# Altium schematic symbol library Triangli.SCHLIB: 45 symbols
Pins are listed as number, name and electrical type; pins without a type are passive.

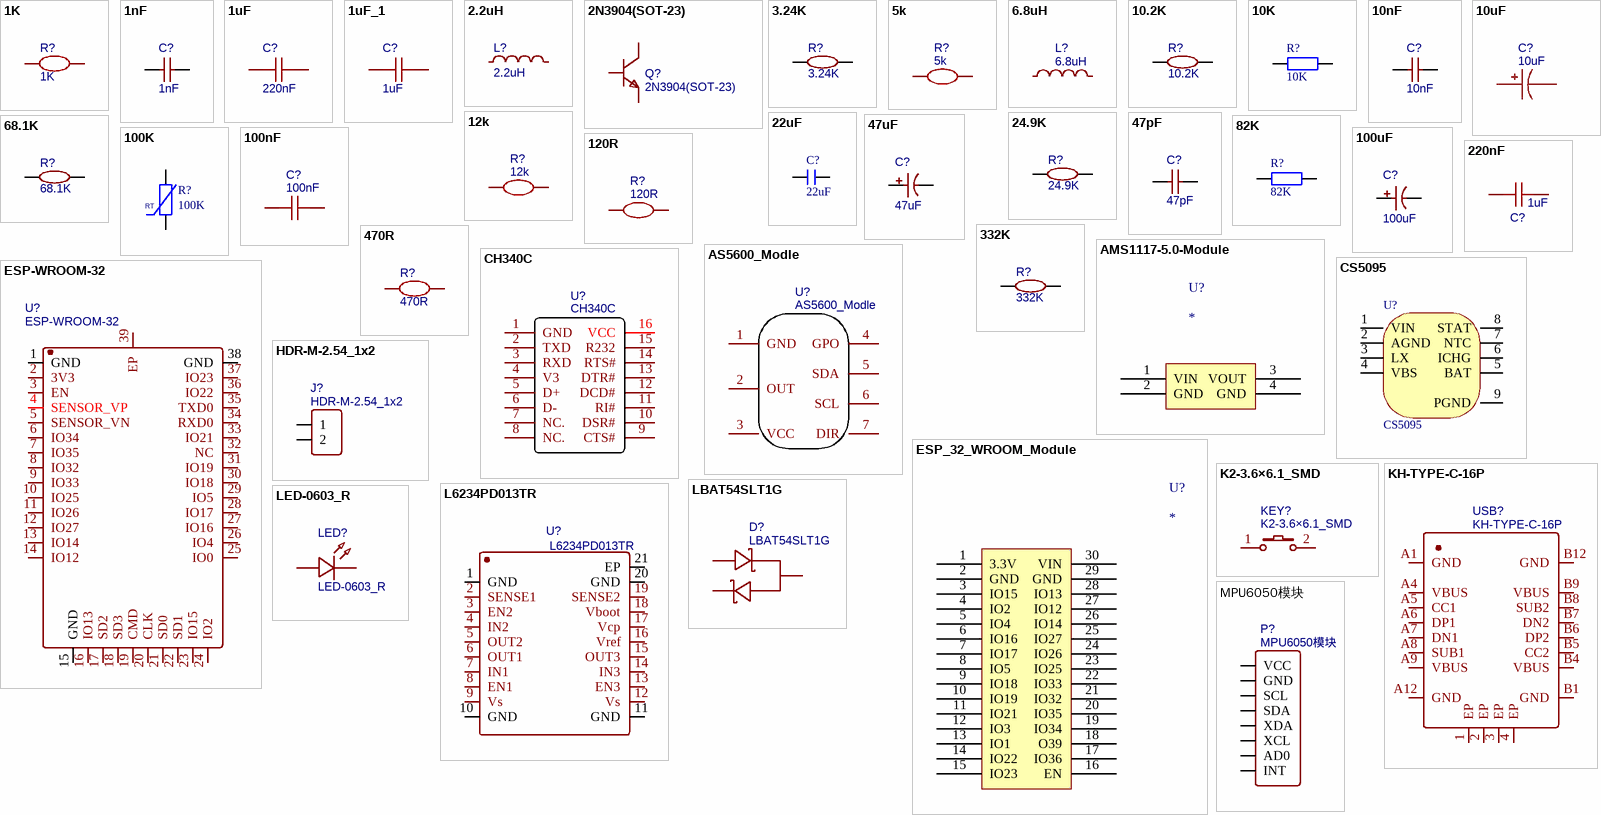
[diagram p0: symbols 1K to MPU6050模块]

## 1K
designator R?
nameAlias: Value(Ω); Contributor: LCEDA_Lib; spicePre: R; spiceSymbolName: R_0603_EU
footprint R0603
pins: 1, 2

## 1nF
designator C?
BOM_Manufacturer: YAGEO; BOM_Manufacturer Part: CC0603KRX7R9BB102; nameAlias: Capacitance; BOM_Supplier: LCSC; BOM_Supplier Part: C100040; spicePre: C; spiceSymbolName: CC0603KRX7R9BB102; BOM_JLCPCB Part Class: Extended Part
footprint C0603
pins: 1, 2

## 1uF
designator C?, comment 220nF
nameAlias: Value(F); Contributor: LCEDA_Lib; spicePre: C; spiceSymbolName: C_0603_US
footprint C0603
pins: 1, 2

## 1uF_1
designator C?, comment 1uF
nameAlias: Value(F); Contributor: LCEDA_Lib; spicePre: C; spiceSymbolName: C_0603_US
footprint C0603
pins: 1, 2

## 2.2uH
designator L?
BOM_Manufacturer: SXN; BOM_Manufacturer Part: SMNR4020-2.2UH; nameAlias: Inductance; BOM_Supplier: LCSC; BOM_Supplier Part: C135262; BOM_JLCPCB Part Class: Extended Part; spicePre: L; spiceSymbolName: SMNR4020-2.2UH
footprint IND-SMD_L4.0-W4.0_SMNR4020
pins: 1, 2

## 2N3904(SOT-23)
designator Q?
BOM_Manufacturer: KEC; BOM_Manufacturer Part: 2n3904S-RTK/PS; Contributor: LCEDA_Lib; BOM_Supplier: LCSC; BOM_Supplier Part: C18536; SMT Type: SOT-23; spicePre: Q; spiceSymbolName: 2N3904(SOT-23)
footprint SOT-23-3_L2.9-W1.3-P1.90-LS2.4-TR
pins: 1 E, 2 B, 3 C

## 3.24K
designator R?
BOM_Manufacturer: UniOhm; BOM_Manufacturer Part: 0603WAF3241T5E; nameAlias: Resistance (Ohms); SMT Type: Extend; BOM_Supplier: LCSC; BOM_Supplier Part: C22994; BOM_LCSC Assembly: Yes; spicePre: R; spiceSymbolName: 0603WAF3241T5E; BOM_JLCPCB Part Class: Extended Part
footprint R0603
pins: 1, 2

## 5k
designator R?
nameAlias: Value(Ω); Contributor: LCEDA_Lib; spicePre: R; spiceSymbolName: R_0603_EU
footprint R0603
pins: 1, 2

## 6.8uH
designator L?
BOM_Manufacturer: TAITEC; BOM_Manufacturer Part: TMPC0624H-6R8MG-D; nameAlias: Inductance; Contributor: LCSC; BOM_Supplier: LCSC; BOM_Supplier Part: C357230; spicePre: L; spiceSymbolName: TMPC0624H-6R8MG-D
footprint IND-SMD_L7.3-W6.6
pins: 1, 2

## 10.2K
designator R?
BOM_Manufacturer: UniOhm; BOM_Manufacturer Part: 0603WAF1022T5E; nameAlias: Resistance (Ohms); SMT Type: Extend; BOM_Supplier: LCSC; BOM_Supplier Part: C22772; BOM_LCSC Assembly: Yes; spicePre: R; spiceSymbolName: 0603WAF1022T5E; BOM_JLCPCB Part Class: Extended Part
footprint R0603
pins: 1, 2

## 10K
designator R?
BOM名称: 贴片电阻; 版权归属: 来自淘宝 ID：黄晶宝石; 联系售后: https://shop463601444.taobao.com
footprint R 0805_L
pins: 1, 2

## 10nF
designator C?
BOM_Manufacturer: YAGEO; BOM_Manufacturer Part: CC0603KRX7R9BB103; nameAlias: Capacitance; BOM_Supplier: LCSC; BOM_Supplier Part: C100042; spicePre: C; spiceSymbolName: CC0603KRX7R9BB103; BOM_JLCPCB Part Class: Extended Part
footprint C0603
pins: 1, 2

## 10uF
designator C?
nameAlias: Value(F); Contributor: LCEDA_Lib; BOM_Supplier Part: C99352; BOM_Supplier: LCSC; spicePre: C; spiceSymbolName: C_Tan_SMD_A_US
footprint CASE-A_3216
pins: 1, 2

## 12k
designator R?
nameAlias: Value(Ω); Contributor: LCEDA_Lib; spicePre: R; spiceSymbolName: R_0603_EU
footprint R0603
pins: 1, 2

## 22uF
designator C?
BOM名称: 无极性贴片电容; 淘宝ID: 封装库来自淘宝 ID：黄晶宝石; 联系售后: https://shop463601444.taobao.com
footprint C 1206_L
pins: 1, 2

## 24.9K
designator R?
BOM_Manufacturer: UniOhm; BOM_Manufacturer Part: 0603WAF2492T5E; nameAlias: Resistance (Ohms); SMT Type: Extend; BOM_Supplier: LCSC; BOM_Supplier Part: C25962; BOM_LCSC Assembly: Yes; spicePre: R; spiceSymbolName: 0603WAF2492T5E; BOM_JLCPCB Part Class: Extended Part
footprint R0603
pins: 1, 2

## 47pF
designator C?
BOM_Manufacturer: YAGEO; BOM_Manufacturer Part: CC0603JRNPO9BN470; nameAlias: Capacitance; BOM_Supplier: LCSC; BOM_Supplier Part: C105622; spicePre: C; spiceSymbolName: CC0603JRNPO9BN470; BOM_JLCPCB Part Class: Extended Part
footprint C0603
pins: 1, 2

## 47uF
designator C?
BOM_Manufacturer: ValuePro; BOM_Manufacturer Part: 47uF 50V 6.3*11Black high frequency; nameAlias: Capacitance; BOM_Supplier: LCSC; BOM_Supplier Part: C45670; spicePre: C; spiceSymbolName: 47uF 50V 6.3*11Black high frequency; BOM_JLCPCB Part Class: Extended Part
footprint CAP-TH_BD6.3-P2.50-D1.0-FD
pins: 1, 2

## 68.1K
designator R?
BOM_Manufacturer: UniOhm; BOM_Manufacturer Part: 0603WAF6812T5E; nameAlias: Resistance (Ohms); SMT Type: Extend; BOM_Supplier: LCSC; BOM_Supplier Part: C25976; BOM_LCSC Assembly: Yes; spicePre: R; spiceSymbolName: 0603WAF6812T5E; BOM_JLCPCB Part Class: Extended Part
footprint R0603
pins: 1, 2

## 82K
designator R?
BOM名称: 贴片电阻; 版权归属: 来自淘宝 ID：黄晶宝石; 联系售后: https://shop463601444.taobao.com
footprint R 0805_L
pins: 1, 2

## 100K
designator R?
BOM名称: 压敏电阻; 版权归属: 封装库来自淘宝 ID：黄晶宝石; 联系售后: https://shop463601444.taobao.com
footprint R 0805-HP_L
pins: 1, 2
text: RT

## 100nF
designator C?
nameAlias: Value(F); Contributor: LCEDA_Lib; Package Display: No; BOM_Supplier Part: C14663; BOM_Supplier: LCSC; spicePre: C; spiceSymbolName: C_0603_US
footprint C0603
pins: 1, 2

## 100uF
designator C?
BOM_Manufacturer: ValuePro; BOM_Manufacturer Part: 100uF 25V 6.3*7; nameAlias: Capacitance; BOM_Supplier: LCSC; BOM_Supplier Part: C44587; BOM_JLCPCB Part Class: Extended Part; spicePre: C; spiceSymbolName: 100uF 25V 6.3*7
footprint CAP-TH_BD6.3-P2.50-D1.0-FD
pins: 1, 2

## 120R
designator R?
nameAlias: Value(Ω); Contributor: LCEDA_Lib; BOM_Supplier Part: C103256; BOM_Supplier: LCSC; spicePre: R; spiceSymbolName: R_0603_EU
footprint R0603
pins: 1, 2

## 220nF
designator C?, comment 1uF
nameAlias: Value(F); Contributor: LCEDA_Lib; spicePre: C; spiceSymbolName: C_0603_US
footprint C0603
pins: 1, 2

## 332K
designator R?
BOM_Manufacturer: UniOhm; BOM_Manufacturer Part: 0603WAF3323T5E; nameAlias: Resistance (Ohms); SMT Type: Extend; BOM_Supplier: LCSC; BOM_Supplier Part: C23139; BOM_LCSC Assembly: Yes; spicePre: R; spiceSymbolName: 0603WAF3323T5E; BOM_JLCPCB Part Class: Extended Part
footprint R0603
pins: 1, 2

## 470R
designator R?
nameAlias: Value(Ω); Contributor: LCEDA_Lib; spicePre: R; spiceSymbolName: R_0603_EU
footprint R0603
pins: 1, 2

## AMS1117-5.0-Module
designator U?
pins: 1 VIN, 2 GND, 3 VOUT, 4 GND

## AS5600_Modle
designator U?
Contributor: 45coll; spicePre: U; spiceSymbolName: AS5600_Modle; 淘宝ID: https://item.taobao.com/item.htm?spm=a1z09.2.0.0.2d022e8duL4IzW&id=622544987536&_u=31sddf3scb0c
footprint AS5600_MODLE
pins: 1 GND, 2 OUT, 3 VCC, 4 GPO, 5 SDA, 6 SCL, 7 DIR

## CH340C
designator U?
BOM_Manufacturer: WCH; BOM_Supplier: LCSC; BOM_Manufacturer Part: CH340C; BOM_Supplier Part: C84681; BOM_JLCPCB Part Class: Extended Part; spicePre: U; spiceSymbolName: CH340C
footprint SOP-16_L10.0-W3.9-P1.27-LS6.0-BL
pins: 1 GND, 2 TXD, 3 RXD, 4 V3, 5 D+, 6 D-, 7 NC., 8 NC., 9 CTS#, 10 DSR#, 11 RI#, 12 DCD#, 13 DTR#, 14 RTS#, 15 R232, 16 VCC

## CS5095
designator U?
footprint ESOP8_N
pins: 1 VIN, 2 AGND, 3 LX, 4 VBS, 5 BAT, 6 ICHG, 7 NTC, 8 STAT, 9 PGND

## ESP-WROOM-32
designator U?
BOM_Manufacturer: ESPRESSIF; BOM_Supplier: LCSC; BOM_Manufacturer Part: ESP-WROOM-32; BOM_Supplier Part: C95209; spicePre: U; spiceSymbolName: ESP-WROOM-32
footprint WIFIM-SMD_ESP-WROOM-32
pins: 1 GND, 2 3V3, 3 EN, 4 SENSOR_VP, 5 SENSOR_VN, 6 IO34, 7 IO35, 8 IO32, 9 IO33, 10 IO25, 11 IO26, 12 IO27, 13 IO14, 14 IO12, 15 GND, 16 IO13, 17 SD2, 18 SD3, 19 CMD, 20 CLK, 21 SD0, 22 SD1, 23 IO15, 24 IO2, 25 IO0, 26 IO4, 27 IO16, 28 IO17, 29 IO5, 30 IO18, 31 IO19, 32 NC, 33 IO21, 34 RXD0, 35 TXD0, 36 IO22, 37 IO23, 38 GND, 39 EP

## ESP_32_WROOM_Module
designator U?
pins: 1 3.3V, 2 GND, 3 IO15, 4 IO2, 5 IO4, 6 IO16, 7 IO17, 8 IO5, 9 IO18, 10 IO19, 11 IO21, 12 IO3, 13 IO1, 14 IO22, 15 IO23, 16 EN, 17 IO36, 18 O39, 19 IO34, 20 IO35, 21 IO32, 22 IO33, 23 IO25, 24 IO26, 25 IO27, 26 IO14, 27 IO12, 28 IO13, 29 GND, 30 VIN

## HDR-M-2.54_1x2
designator J?
Contributor: LCEDA_Lib; BOM_Supplier Part: C124375; BOM_Supplier: LCSC; spicePre: J; spiceSymbolName: HDR-M-2.54_1x2
footprint HDR-M-2.54_1X2
pins: 1, 2

## K2-3.6×6.1_SMD
designator KEY?
BOM_Manufacturer Part: K2-1107ST-A4SW-06; Contributor: LCEDA_Lib; 制造商: 韩国韩荣; BOM_Supplier Part: C118141; BOM_Supplier: LCSC; spicePre: K; spiceSymbolName: K2-3.6×6.1_SMD
footprint KEY-SMD_2P-L6.2-W3.6-LS8.0
pins: 1, 2

## KH-TYPE-C-16P
designator USB?
BOM_Manufacturer: Shenzhen Kinghelm Elec; Contributor: LCSC; BOM_Supplier: LCSC; BOM_Supplier Part: C709357; BOM_Manufacturer Part: KH-TYPE-C-16P; BOM_JLCPCB Part Class: Extended Part; spicePre: U; spiceSymbolName: KH-TYPE-C-16P
footprint USB-C-SMD_KH-TYPE-C-16P
pins: 1 EP, 2 EP, 3 EP, 4 EP, A1 GND, A4 VBUS, A5 CC1, A6 DP1, A7 DN1, A8 SUB1, A9 VBUS, A12 GND, B1 GND, B4 VBUS, B5 CC2, B6 DP2, B7 DN2, B8 SUB2, B9 VBUS, B12 GND

## L6234PD013TR
designator U?
BOM_Manufacturer: STMicroelectronics; BOM_Supplier: LCSC; BOM_Manufacturer Part: L6234PD013TR; BOM_Supplier Part: C77581; BOM_JLCPCB Part Class: Extended Part; spicePre: U; spiceSymbolName: L6234PD013TR
footprint POWERSO20_L15.9-W11.0-P1.27-LS14.2-BL-EP
pins: 1 GND, 2 SENSE1, 3 EN2, 4 IN2, 5 OUT2, 6 OUT1, 7 IN1, 8 EN1, 9 Vs, 10 GND, 11 GND, 12 Vs, 13 EN3, 14 IN3, 15 OUT3, 16 Vref, 17 Vcp, 18 Vboot, 19 SENSE2, 20 GND, 21 EP

## LBAT54SLT1G
designator D?
BOM_Manufacturer: LRC; BOM_Supplier: LCSC; BOM_Manufacturer Part: LBAT54SLT1G; BOM_Supplier Part: C12765; BOM_JLCPCB Part Class: Extended Part; spicePre: D; spiceSymbolName: LBAT54SLT1G
footprint SOT-23_L2.9-W1.3-P1.90-LS2.4-BR
pins: 1 A, 2 K, 3 AK

## LED-0603_R
designator LED?
BOM_Manufacturer: EVERLIGHT(台湾亿光); BOM_Manufacturer Part: 19-217/R6C-AL1M2VY/3T; Contributor: LCEDA_01; BOM_Supplier Part: C72044; BOM_Supplier: LCSC; spicePre: L; spiceSymbolName: LED-0603_R
footprint LED0603_RED
pins: 1, 2

## MPU6050模块
designator P?
spicePre: P; spiceSymbolName: MPU6050模块
footprint MPU6050模块
pins: 1 VCC, 2 GND, 3 SCL, 4 SDA, 5 XDA, 6 XCL, 7 AD0, 8 INT

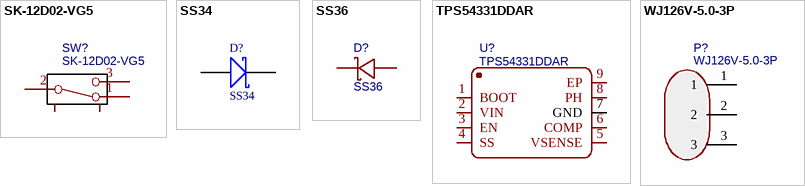
[diagram p1: symbols SK-12D02-VG5 to WJ126V-5.0-3P]

## SK-12D02-VG5
designator SW?
BOM_Manufacturer: Rectangular Connectors - Contacts; Contributor: LCSC; BOM_Supplier: LCSC; BOM_Supplier Part: C136722; BOM_Manufacturer Part: SK-12D02-VG5; spicePre: S; spiceSymbolName: SK-12D02-VG5; BOM_JLCPCB Part Class: Extended Part
footprint SW-TH_SK-12D02-VG5
pins: 1, 2, 3, 4, 5

## SS34
designator D?
BOM名称: 肖特基二极管; 属性: 40V/1A; 封装库来自淘宝 ID：黄晶宝石: https://shop463601444.taobao.com
footprint SMA
pins: 1 A, 2 K

## SS36
designator D?
BOM_Manufacturer: MDD; BOM_Supplier: LCSC; BOM_Manufacturer Part: SS36; BOM_Supplier Part: C16015; BOM_JLCPCB Part Class: Extended Part; spicePre: D; spiceSymbolName: SS36
footprint SMA_L4.3-W2.6-LS5.2-RD
pins: 1 K, 2 A

## TPS54331DDAR
designator U?
BOM_Manufacturer: TI; Contributor: 13471635540; SMT Type: Extend; BOM_Supplier: LCSC; BOM_Manufacturer Part: TPS54331DDAR; BOM_Supplier Part: C90761; BOM_LCSC Assembly: Yes; spicePre: U; spiceSymbolName: TPS54331DDAR
footprint SOIC-8_L5.0-W4.0-P1.27-LS6.0-BL-EP
pins: 1 BOOT, 2 VIN, 3 EN, 4 SS, 5 VSENSE, 6 COMP, 7 GND, 8 PH, 9 EP

## WJ126V-5.0-3P
designator P?
BOM_Manufacturer: ReliaPro; BOM_Supplier: LCSC; BOM_Manufacturer Part: WJ126V-5.0-3P; BOM_Supplier Part: C8401; BOM_JLCPCB Part Class: Extended Part; spicePre: P; spiceSymbolName: WJ126V-5.0-3P
footprint CONN-TH_3P-P5.00_WJ126V-5.0-3P
pins: 1, 2, 3